# EAGLE library part STM8S003F3P6 (library Deegou_IC)
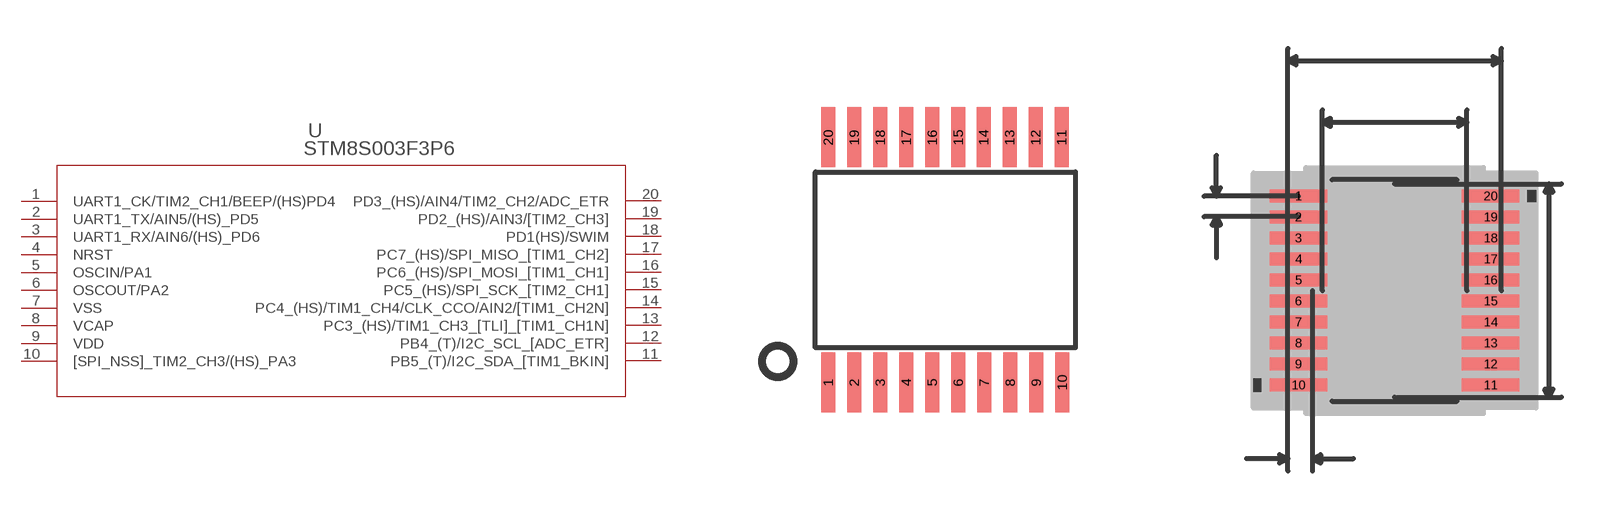
[diagram p128: symbol with the pads of TSSOP20; footprints TSSOP20, TSSOP20-M]

Designator prefix U

## STM8S003F3P6 (MANUFACTURER_PART_NUMBER: STM8S003F3P6; VENDOR: STMicroelectronics)  [TSSOP20]
1  UART1_CK/TIM2_CH1/BEEP/(HS)PD4
2  UART1_TX/AIN5/(HS)_PD5
3  UART1_RX/AIN6/(HS)_PD6
4  NRST
5  OSCIN/PA1
6  OSCOUT/PA2
7  VSS  pwr
8  VCAP  pwr
9  VDD  pwr
10  [SPI_NSS]_TIM2_CH3/(HS)_PA3
11  PB5_(T)/I2C_SDA_[TIM1_BKIN]
12  PB4_(T)/I2C_SCL_[ADC_ETR]
13  PC3_(HS)/TIM1_CH3_[TLI]_[TIM1_CH1N]
14  PC4_(HS)/TIM1_CH4/CLK_CCO/AIN2/[TIM1_CH2N]
15  PC5_(HS)/SPI_SCK_[TIM2_CH1]
16  PC6_(HS)/SPI_MOSI_[TIM1_CH1]
17  PC7_(HS)/SPI_MISO_[TIM1_CH2]
18  PD1(HS)/SWIM
19  PD2_(HS)/AIN3/[TIM2_CH3]
20  PD3_(HS)/AIN4/TIM2_CH2/ADC_ETR

## STM8S003F3P6TSSOP20-M (MANUFACTURER_PART_NUMBER: STM8S003F3P6; VENDOR: STMicroelectronics)  [TSSOP20-M]
Pads as for TSSOP20

## STM8S003F3P6TSSOP20-L (MANUFACTURER_PART_NUMBER: STM8S003F3P6; VENDOR: STMicroelectronics)  [TSSOP20-L]
Pads as for TSSOP20

## Footprint TSSOP20 (pad centres in mm)
smd 0.35 x 1.5: 1 -2.925,-3.065; 2 -2.275,-3.065; 3 -1.625,-3.065; 4 -0.975,-3.065; 5 -0.325,-3.065; 6 0.325,-3.065; 7 0.975,-3.065; 8 1.625,-3.065; 9 2.275,-3.065; 10 2.925,-3.065; 11 2.91,3.065; 12 2.26,3.065; 13 1.61,3.065; 14 0.96,3.065; 15 0.325,3.065; 16 -0.325,3.065; 17 -0.975,3.065; 18 -1.625,3.065; 19 -2.275,3.065; 20 -2.925,3.065

## Footprint TSSOP20-M (pad centres in mm)
smd 1.778 x 0.406: 1 -2.972,2.925; 2 -2.972,2.275; 3 -2.972,1.625; 4 -2.972,0.975; 5 -2.972,0.325; 6 -2.972,-0.325; 7 -2.972,-0.975; 8 -2.972,-1.625; 9 -2.972,-2.275; 10 -2.972,-2.925; 11 2.972,-2.925; 12 2.972,-2.275; 13 2.972,-1.625; 14 2.972,-0.975; 15 2.972,-0.325; 16 2.972,0.325; 17 2.972,0.975; 18 2.972,1.625; 19 2.972,2.275; 20 2.972,2.925

## Footprint TSSOP20-L (pad centres in mm)
smd 1.168 x 0.305: 1 -2.87,2.925; 2 -2.87,2.275; 3 -2.87,1.625; 4 -2.87,0.975; 5 -2.87,0.325; 6 -2.87,-0.325; 7 -2.87,-0.975; 8 -2.87,-1.625; 9 -2.87,-2.275; 10 -2.87,-2.925; 11 2.87,-2.925; 12 2.87,-2.275; 13 2.87,-1.625; 14 2.87,-0.975; 15 2.87,-0.325; 16 2.87,0.325; 17 2.87,0.975; 18 2.87,1.625; 19 2.87,2.275; 20 2.87,2.925